# EAGLE library part CS4340A (library mp3)
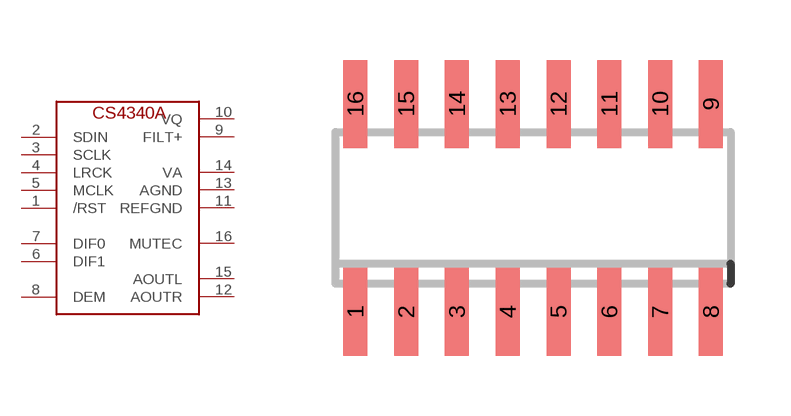
[diagram p0: symbol with the pads of SO16; footprint SO16]

Designator prefix -

## CS4340A  [SO16]
1  /RST  in
2  SDIN  in
3  SCLK  in
4  LRCK  in
5  MCLK  in
6  DIF1  in
7  DIF0  in
8  DEM  in
9  FILT+  out
10  VQ  out
11  REFGND  pwr
12  AOUTR  out
13  AGND  pwr
14  VA  pwr
15  AOUTL  out
16  MUTEC  out

## Footprint SO16 (pad centres in mm)
smd 0.6 x 2.2: 1 -4.445,-2.6; 2 -3.175,-2.6; 3 -1.905,-2.6; 4 -0.635,-2.6; 5 0.635,-2.6; 6 1.905,-2.6; 7 3.175,-2.6; 8 4.445,-2.6; 9 4.445,2.6; 10 3.175,2.6; 11 1.905,2.6; 12 0.635,2.6; 13 -0.635,2.6; 14 -1.905,2.6; 15 -3.175,2.6; 16 -4.445,2.6